# EAGLE library part YSM-2388CRGBC (library led-matrix-v3)
LED Matrix - Tri Color (Red + Green + Blue) - Large sku: COM-00683 0.33x2.38x2.38"
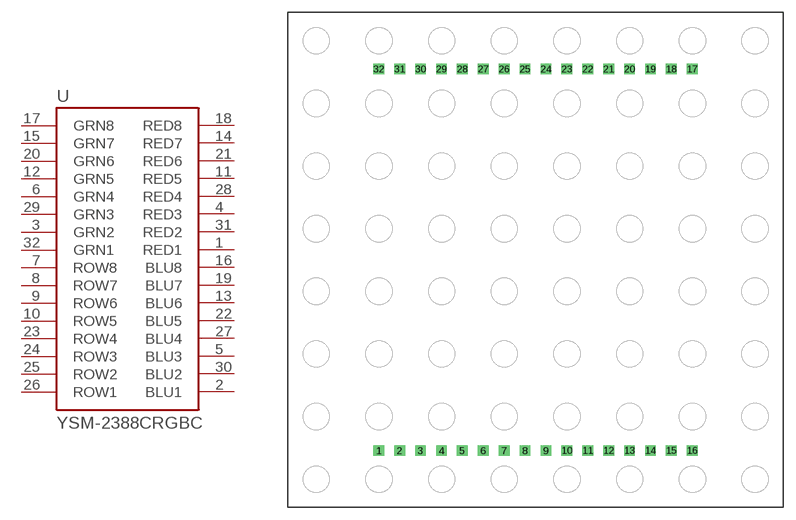
[diagram p2: symbol with the pads of YSM-2388CRGBC; footprint YSM-2388CRGBC]

Designator prefix -

## YSM-2388CRGBC  [YSM-2388CRGBC]
1  RED1
2  BLU1
3  GRN2
4  RED3
5  BLU3
6  GRN4
7  ROW8
8  ROW7
9  ROW6
10  ROW5
11  RED5
12  GRN5
13  BLU6
14  RED7
15  GRN7
16  BLU8
17  GRN8
18  RED8
19  BLU7
20  GRN6
21  RED6
22  BLU5
23  ROW4
24  ROW3
25  ROW2
26  ROW1
27  BLU4
28  RED4
29  GRN3
30  BLU2
31  RED2
32  GRN1

## Footprint YSM-2388CRGBC (pad centres in mm)
drill 0.8 square: 1 -19.05,-23.2; 2 -16.51,-23.2; 3 -13.97,-23.2; 4 -11.43,-23.2; 5 -8.89,-23.2; 6 -6.35,-23.2; 7 -3.81,-23.2; 8 -1.27,-23.2; 9 1.27,-23.2; 10 3.81,-23.2; 11 6.35,-23.2; 12 8.89,-23.2; 13 11.43,-23.2; 14 13.97,-23.2; 15 16.51,-23.2; 16 19.05,-23.2; 17 19.05,23.2; 18 16.51,23.2; 19 13.97,23.2; 20 11.43,23.2; 21 8.89,23.2; 22 6.35,23.2; 23 3.81,23.2; 24 1.27,23.2; 25 -1.27,23.2; 26 -3.81,23.2; 27 -6.35,23.2; 28 -8.89,23.2; 29 -11.43,23.2; 30 -13.97,23.2; 31 -16.51,23.2; 32 -19.05,23.2